# EAGLE library part LTC2945 (library LTC2945)
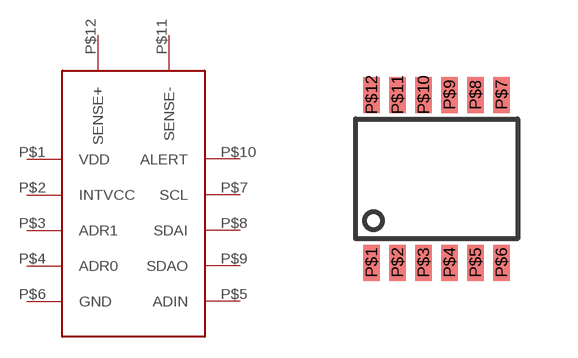
[diagram p0: symbol with the pads of LTC2945; footprint LTC2945]

Designator prefix -

## LTC2945  [LTC2945]
P$1  VDD
P$2  INTVCC
P$3  ADR1
P$4  ADR0
P$5  ADIN
P$6  GND
P$7  SCL
P$8  SDAI
P$9  SDAO
P$10  ALERT
P$11  SENSE-
P$12  SENSE+

## Footprint LTC2945 (pad centres in mm)
smd 0.42 x 0.9: P$1 0.25,0.55; P$2 0.9,0.55; P$3 1.55,0.55; P$4 2.2,0.55; P$5 2.85,0.55; P$6 3.5,0.55; P$7 3.5,4.75; P$8 2.85,4.75; P$9 2.2,4.75; P$10 1.55,4.75; P$11 0.9,4.75; P$12 0.25,4.75